# EAGLE library part 200528-0200 (library 200528-0200)
FFC & FPC Connectors 1.0 FPC ZIF BTM 20Ckt Source: Datasheet
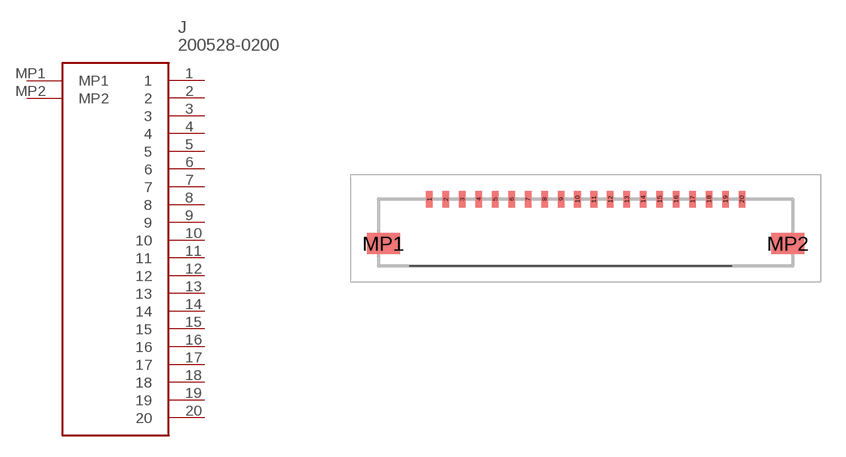
[diagram p0: symbol with the pads of 2005280200; footprint 2005280200]

Designator prefix J

## 200528-0200 (Description: FFC & FPC Connectors 1.0 FPC ZIF BTM 20Ckt; Height: 2.1mm; Manufacturer_Name: Molex; Manufacturer_Part_Number: 200528-0200; Mouser_Part_Number: 538-200528-0200; Mouser_Price-Stock: https://www.mouser.co.uk/ProductDetail/Molex/200528-0200?qs=0lSvoLzn4L%252Bo0Zbg1dhYxg%3D%3D)  [2005280200]
1  1
2  2
3  3
4  4
5  5
6  6
7  7
8  8
9  9
10  10
11  11
12  12
13  13
14  14
15  15
16  16
17  17
18  18
19  19
20  20
MP1  MP1
MP2  MP2

## Footprint 2005280200 (pad centres in mm)
200528-0200-2
smd 0.4 x 1: 1 -9.5,2.025; 2 -8.5,2.025; 3 -7.5,2.025; 4 -6.5,2.025; 5 -5.5,2.025; 6 -4.5,2.025; 7 -3.5,2.025; 8 -2.5,2.025; 9 -1.5,2.025; 10 -0.5,2.025; 11 0.5,2.025; 12 1.5,2.025; 13 2.5,2.025; 14 3.5,2.025; 15 4.5,2.025; 16 5.5,2.025; 17 6.5,2.025; 18 7.5,2.025; 19 8.5,2.025; 20 9.5,2.025
smd 2 x 1.3: MP1 -12.3,-0.675; MP2 12.3,-0.675